# Altium footprint library PCB11.PcbLib: 25 footprints (part 1 of 2)
Each footprint in its own frame and in the unit in brackets; x right, y up, seen from the top. Pads: shape width x height; smd on the part's side, far side on the other; paste and mask are expansions set on the pad; w line width, h text height; cw(c..) or ccw(c..) is an arc to the next point about the centre after c.
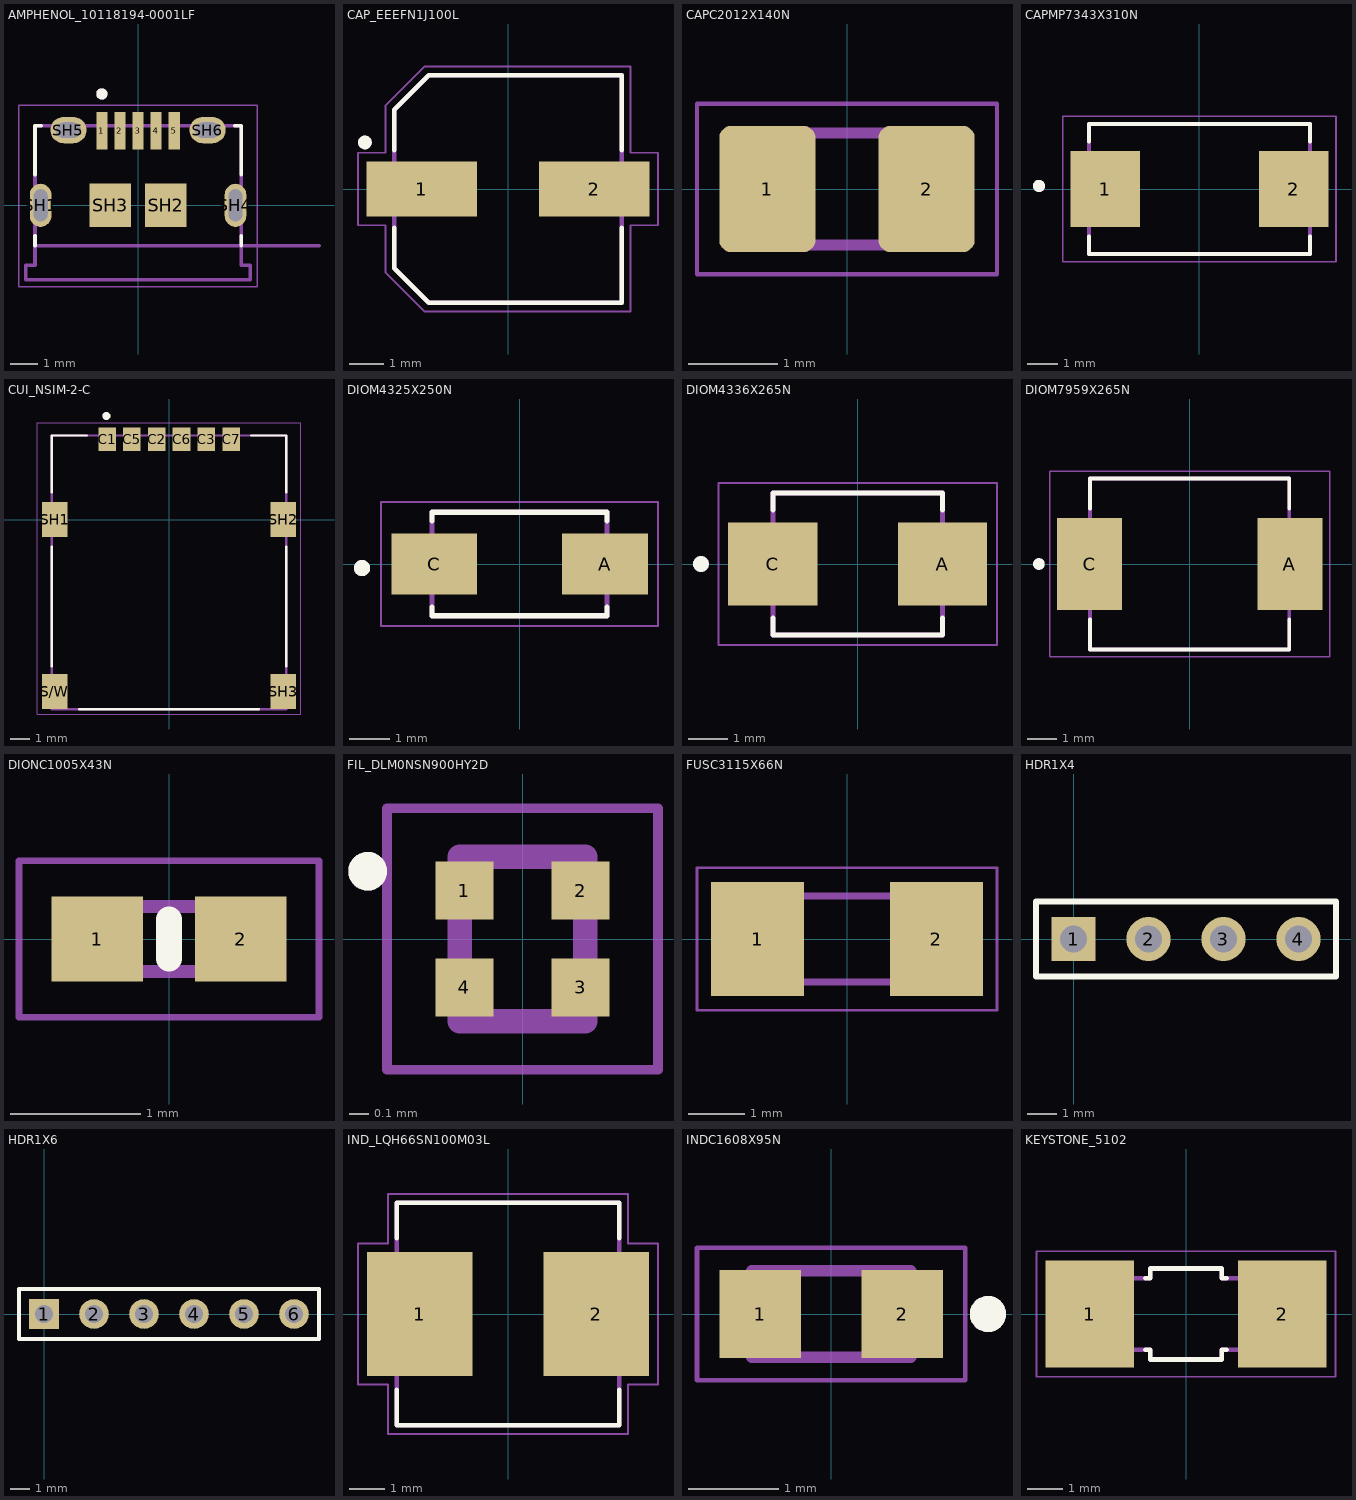
[diagram p0: the footprints below, top view; thin cyan lines are the x and y axes]

## AMPHENOL_10118194-0001LF [mm]
pads (11):
  rect 0.4x1.35 smd: 1(-1.3,2.675) 2(-0.65,2.675) 3(0,2.675) 4(0.65,2.675) 5(1.3,2.675)
  oval 0.775x1.55 hole 0.5 slot 1.15 at 90 deg mask+0: SH1(-3.5,0) SH4(3.5,0)
  rect 1.5x1.55 smd: SH2(1,0) SH3(-1,0)
  oval 1.3x0.95 hole 0.55 slot 0.9 at 0 deg: SH5(-2.5,2.7) SH6(2.5,2.7)
Top Overlay:
  circle w0.2: c-1.3,4 r0.1
  lines w0.127: -3.7,-1.45 -3.7,-1.1 ; -3.7,1.1 -3.7,2.85 -3.47,2.85 ; 3.47,2.85 3.7,2.85 3.7,1.1 ; 3.7,-1.45 3.7,-1.1
Mechanical 13:
  circle w0.2: c-1.3,4 r0.1
  lines w0.127: 6.5,-1.45 -3.7,-1.45 ; -3.7,-1.45 -3.7,-2.15 -4.025,-2.15 -4.025,-2.68 4.025,-2.68 4.025,-2.15 3.7,-2.15 3.7,2.85 -3.7,2.85 -3.7,-1.45
  text "PCB EDGE" at 4.25,-1.25 h0.81
Mechanical 15:
  lines w0.05: -4.275,-2.93 -4.275,3.6 4.275,3.6 4.275,-2.93 -4.275,-2.93
3D body "step_temp.STEP": height 2.67, standoff -0.6, extent -4.025,-2.68 4.025,2.85

## CAP_EEEFN1J100L [mm]
pads (2):
  rect 3.2x1.6 smd: 1(-2.5,0) 2(2.5,0)
Top Overlay:
  circle w0.2: c-4.15,1.35 r0.1
  lines w0.127: -3.3,-1.12 -3.3,-2.3 -2.3,-3.3 3.3,-3.3 3.3,-1.12 ; -3.3,1.12 -3.3,2.3 -2.3,3.3 3.3,3.3 3.3,1.12
Mechanical 13:
  circle w0.2: c-4.15,1.35 r0.1
  lines w0.127: -3.3,-2.3 -2.3,-3.3 3.3,-3.3 3.3,3.3 -2.3,3.3 -3.3,2.3 -3.3,-2.3
Mechanical 15:
  lines w0.05: -4.35,-1.05 -4.35,1.05 -3.55,1.05 -3.55,2.425 -2.425,3.55 3.55,3.55 3.55,1.05 4.35,1.05 4.35,-1.05 3.55,-1.05 3.55,-3.55 -2.425,-3.55 -3.55,-2.425 -3.55,-1.05 -4.35,-1.05
3D body "step_temp.STEP": height 5.8, standoff 0, extent -3.65,-3.3 3.65,3.3

## CAPC2012X140N [mm]
pads (2):
  rrect25% 1.08x1.42 smd: 1(-0.895,0) 2(0.895,0)
Mechanical 13:
  lines w0.127: -1,-0.63 -1,0.63 1,0.63 1,-0.63 -1,-0.63
Mechanical 15:
  lines w0.05: -1.685,-0.96 -1.685,0.96 1.685,0.96 1.685,-0.96 -1.685,-0.96
3D body "step_temp.STEP": height 1.4, standoff 0, extent -1,-0.625 1,0.625

## CAPMP7343X310N [mm]
pads (2):
  rect 2.3x2.52 smd: 1(-3.11,0) 2(3.11,0)
Top Overlay:
  circle w0.2: c-5.3,0.1 r0.1
  lines w0.127: -3.65,-1.573 -3.65,-2.15 3.65,-2.15 3.65,-1.573 ; -3.65,1.573 -3.65,2.15 3.65,2.15 3.65,1.573
Mechanical 13:
  circle w0.2: c-5.3,0.1 r0.1
  lines w0.127: -3.65,-2.15 3.65,-2.15 3.65,2.15 -3.65,2.15 -3.65,-2.15
Mechanical 15:
  lines w0.05: -4.51,-2.4 4.51,-2.4 4.51,2.4 -4.51,2.4 -4.51,-2.4
3D body "step_temp.STEP": height 3.1, standoff 0, extent -3.65,-2.15 3.65,2.15

## CUI_NSIM-2-C [mm]
pads (10):
  rect 0.9x1.2 smd: C1(-3.17,4.1) C2(-0.63,4.1) C3(1.91,4.1) C5(-1.9,4.1) C6(0.64,4.1) C7(3.18,4.1)
  rect 1.3x1.8 smd: S/W(-5.85,-8.8) SH1(-5.85,0) SH2(5.85,0) SH3(5.85,-8.8)
Top Overlay:
  circle w0.2: c-3.2,5.3 r0.1
  lines w0.127: -6,-7.5 -6,-1.4 ; -6,1.4 -6,4.3 -4.2,4.3 ; -4.6,-9.7 4.6,-9.7 ; 4.2,4.3 6,4.3 6,1.4 ; 6,-7.5 6,-1.4
Mechanical 13:
  circle w0.2: c-3.2,5.3 r0.1
  lines w0.127: -6,-9.7 -6,4.3 6,4.3 6,-9.7 -6,-9.7
Mechanical 15:
  lines w0.05: -6.75,-9.95 -6.75,4.95 6.75,4.95 6.75,-9.95 -6.75,-9.95
3D body "step_temp.STEP": height 1.45, standoff 0.02, extent -6.073,-9.779 6.327,4.321

## DIOM4325X250N [mm]
pads (2):
  rect 2.12x1.5 smd: A(2.115,0) C(-2.115,0)
Top Overlay:
  circle w0.2: c-3.9,-0.1 r0.1
  lines w0.127: -2.165,-1.07 -2.165,-1.28 2.165,-1.28 2.165,-1.07 ; -2.165,1.07 -2.165,1.28 2.165,1.28 2.165,1.07
Mechanical 13:
  circle w0.2: c-3.9,-0.1 r0.1
  lines w0.127: -2.165,-1.28 2.165,-1.28 2.165,1.28 -2.165,1.28 -2.165,-1.28
Mechanical 15:
  lines w0.05: -3.425,-1.53 3.425,-1.53 3.425,1.53 -3.425,1.53 -3.425,-1.53
3D body "step_temp.STEP": height 2.5, standoff 0, extent -2.57,-1.28 2.57,1.28

## DIOM4336X265N [mm]
pads (2):
  rect 2.28x2.12 smd: A(2.165,0) C(-2.165,0)
Top Overlay:
  circle w0.2: c-4,0 r0.1
  lines w0.127: -2.163,-1.38 -2.163,-1.813 2.163,-1.813 2.163,-1.38 ; -2.163,1.38 -2.163,1.813 2.163,1.813 2.163,1.38
Mechanical 13:
  circle w0.2: c-4,0 r0.1
  lines w0.127: -2.163,-1.813 2.163,-1.813 2.163,1.813 -2.163,1.813 -2.163,-1.813
Mechanical 15:
  lines w0.05: -3.555,-2.063 3.555,-2.063 3.555,2.063 -3.555,2.063 -3.555,-2.063
3D body "step_temp.STEP": height 2.65, standoff 0, extent -2.675,-1.813 2.675,1.813

## DIOM7959X265N [mm]
pads (2):
  rect 2.25x3.18 smd: A(3.455,0) C(-3.455,0)
Top Overlay:
  circle w0.2: c-5.2,0 r0.1
  lines w0.127: -3.437,-1.91 -3.437,-2.95 3.437,-2.95 3.437,-1.91 ; -3.437,1.91 -3.437,2.95 3.437,2.95 3.437,1.91
Mechanical 13:
  circle w0.2: c-5.2,0 r0.1
  lines w0.127: -3.437,-2.95 -3.437,2.95 3.437,2.95 3.437,-2.95 -3.437,-2.95
Mechanical 15:
  lines w0.05: -4.83,-3.2 4.83,-3.2 4.83,3.2 -4.83,3.2 -4.83,-3.2
3D body "step_temp.STEP": height 2.65, standoff 0, extent -3.975,-2.95 3.975,2.95

## DIONC1005X43N [mm]
pads (2):
  rect 0.7x0.65 smd: 1(-0.55,0) 2(0.55,0)
Top Overlay:
  lines w0.2: 0,-0.15 0,0.15
Mechanical 13:
  lines w0.05: -1.15,-0.6 -1.15,0.6 1.15,0.6 1.15,-0.6 -1.15,-0.6
  lines w0.1: -0.5,-0.25 -0.5,0.25 0.5,0.25 0.5,-0.25 -0.5,-0.25

## FIL_DLM0NSN900HY2D [mm]
pads (4):
  rect 0.3x0.3 smd: 1(-0.3,0.25) 2(0.3,0.25) 3(0.3,-0.25) 4(-0.3,-0.25)
Top Overlay:
  circle w0.1: c-0.8,0.35 r0.05
Mechanical 13:
  circle w0.1: c-0.8,0.35 r0.05
  lines w0.127: -0.325,-0.425 -0.325,0.425 0.325,0.425 0.325,-0.425 -0.325,-0.425
Mechanical 15:
  lines w0.05: -0.7,-0.675 0.7,-0.675 0.7,0.675 -0.7,0.675 -0.7,-0.675
3D body "step_temp.STEP": height 0.5, standoff 0, extent -0.325,-0.425 0.325,0.425

## FUSC3115X66N [mm]
pads (2):
  rect 1.65x2.03 smd: 1(-1.59,0) 2(1.59,0)
Mechanical 13:
  lines w0.127: -1.587,-0.762 1.587,-0.762 1.587,0.762 -1.587,0.762 -1.587,-0.762
Mechanical 15:
  lines w0.05: -2.665,-1.265 -2.665,1.265 2.665,1.265 2.665,-1.265 -2.665,-1.265
3D body "step_temp.STEP": height 0.66, standoff 0, extent -1.587,-0.762 1.587,0.762

## HDR1X4 [mm] "Connector; Header; 4 Position"
pads (4):
  rect 1.5x1.5 hole 0.9: 1(0,0)
  round 1.5 hole 0.9: 2(2.54,0) 3(5.08,0) 4(7.62,0)
Top Overlay:
  lines w0.2: -1.27,-1.27 8.89,-1.27 8.89,1.27 -1.27,1.27 -1.27,-1.27

## HDR1X6 [mm] "Connector; Header; 6 Position"
pads (6):
  rect 1.5x1.5 hole 0.9: 1(0,0)
  round 1.5 hole 0.9: 2(2.54,0) 3(5.08,0) 4(7.62,0) 5(10.16,0) 6(12.7,0)
Top Overlay:
  lines w0.2: -1.27,-1.27 13.97,-1.27 13.97,1.27 -1.27,1.27 -1.27,-1.27

## IND_LQH66SN100M03L [mm]
pads (2):
  rect 3x3.5 smd: 1(-2.5,0) 2(2.5,0)
Top Overlay:
  lines w0.127: -3.15,-2.15 -3.15,-3.15 3.15,-3.15 3.15,-2.15 ; -3.15,2.15 -3.15,3.15 3.15,3.15 3.15,2.15
Mechanical 13:
  lines w0.127: -3.15,-3.15 3.15,-3.15 3.15,3.15 -3.15,3.15 -3.15,-3.15
Mechanical 15:
  lines w0.05: -4.25,-2 -4.25,2 -3.4,2 -3.4,3.4 3.4,3.4 3.4,2 4.25,2 4.25,-2 3.4,-2 3.4,-3.4 -3.4,-3.4 -3.4,-2 -4.25,-2
3D body "step_temp.STEP": height 5, standoff 0, extent -3.15,-3.15 3.15,3.15

## INDC1608X95N [mm]
pads (2):
  rect 0.9x0.97 smd: 1(-0.785,0) 2(0.785,0)
Top Overlay:
  circle w0.2: c1.735,0 r0.1
Mechanical 13:
  circle w0.2: c1.735,0 r0.1
  lines w0.127: -0.88,-0.48 -0.88,0.48 0.88,0.48 0.88,-0.48 -0.88,-0.48
Mechanical 15:
  lines w0.05: -1.485,-0.735 -1.485,0.735 1.485,0.735 1.485,-0.735 -1.485,-0.735
3D body "step_temp.STEP": height 0.95, standoff 0, extent -0.8,-0.4 0.8,0.4

## KEYSTONE_5102 [mm]
pads (2):
  rect 2.475x3 smd: 1(-2.688,0) 2(2.688,0)
Top Overlay:
  lines w0.127: -1.13,-1 -1,-1 -1,-1.27 1,-1.27 1,-1 1.13,-1 ; -1.13,1 -1,1 -1,1.27 1,1.27 1,1 1.13,1
Mechanical 13:
  lines w0.127: -3.425,-1 -1,-1 -1,-1.27 1,-1.27 1,-1 3.425,-1 3.425,1 1,1 1,1.27 -1,1.27 -1,1 -3.425,1 -3.425,-1
Mechanical 15:
  lines w0.05: -4.175,-1.75 4.175,-1.75 4.175,1.75 -4.175,1.75 -4.175,-1.75
3D body "step_temp.STEP": height 1, standoff 0, extent -3.425,-1.27 3.425,1.27